# Altium schematic symbol library GPS-V2.SCHLIB: 24 symbols
Pins are listed as number, name and electrical type; pins without a type are passive.

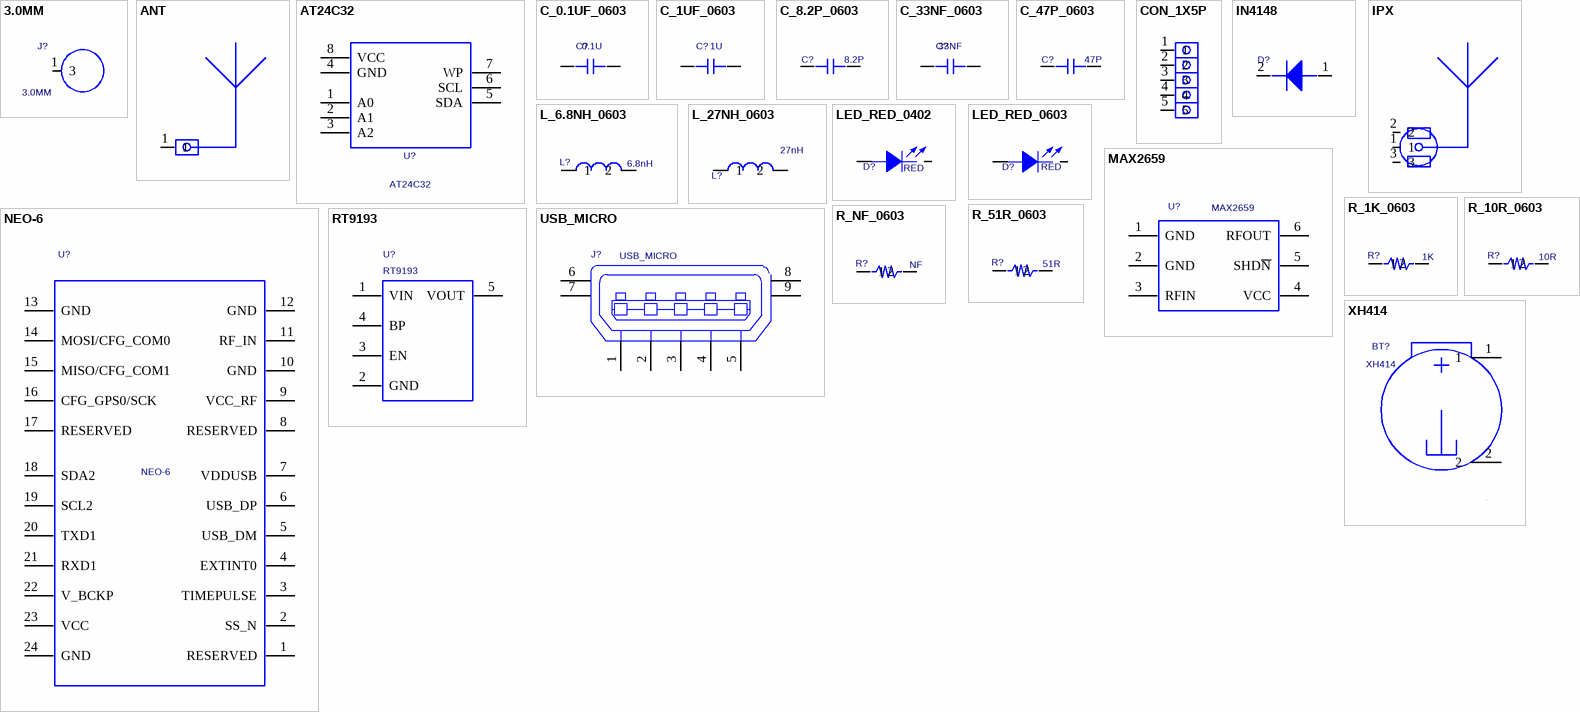
[diagram p0: symbols 3.0MM to XH414]

## 3.0MM
designator J?
PCB DECAL: 3.0MM-5
footprint 3.0MM-5
pins: 1 3

## ANT
designator U?  (value not drawn)
GPS-ANT; Value: GPS-ANT; Manufacture 1 P/N: GPS-ANT; PCB DECAL: ANT
footprint ANT
pins: 1

## AT24C32
designator U?
PCB DECAL: TSSOP8
footprint TSSOP8
pins: 1 A0, 2 A1, 3 A2, 4 GND, 5 SDA, 6 SCL, 7 WP, 8 VCC

## C_0.1UF_0603
designator C?  value 0.1U  (hidden comment: C_0.1UF_0603)
PCB DECAL: C_0603
footprint C_0603
pins: 1, 2

## C_1UF_0603
designator C?  value 1U  (hidden comment: C_1UF_0603)
PCB DECAL: C_0603
footprint C_0603
pins: 1, 2

## C_8.2P_0603
designator C?  value 8.2P  (hidden comment: C_8.2P_0603)
PCB DECAL: C_0603
footprint C_0603
pins: 1, 2

## C_33NF_0603
designator C?  value 33NF  (hidden comment: C_33NF_0603)
PCB DECAL: C_0603
footprint C_0603
pins: 1, 2

## C_47P_0603
designator C?  value 47P  (hidden comment: C_47P_0603)
PCB DECAL: C_0603
footprint C_0603
pins: 1, 2

## CON_1X5P
designator J?  (value not drawn)
PCB DECAL: CON_1X5P
footprint CON_1X5P
pins: 1, 2, 3, 4, 5

## IN4148
designator D?  (value not drawn)
PCB DECAL: DIODE_SOP
footprint DIODE_SOP
pins: 1 +, 2 -

## IPX
designator J?  (value not drawn)
PCB DECAL: IPX
footprint IPX
pins: 1, 2, 3

## L_6.8NH_0603
designator L?  value 6.8nH  (hidden comment: L_6.8NH_0603)
PCB DECAL: R_0603
footprint R_0603
pins: 1, 2

## L_27NH_0603
designator L?  value 27nH  (hidden comment: L_27NH_0603)
PCB DECAL: R_0603
footprint R_0603
pins: 1, 2

## LED_RED_0402
designator D?  value RED  (hidden comment: LED_RED_0402)
PCB DECAL: LED_0402
footprint LED_0402
pins: A ANODE, K CATHODE

## LED_RED_0603
designator D?  value RED  (hidden comment: LED_RED_0603)
PCB DECAL: LED_0603
footprint LED_0603
pins: A ANODE, K CATHODE

## MAX2659
designator U?
PCB DECAL: UDNF-6L
footprint UDNF-6L
pins: 1 GND, 2 GND, 3 RFIN, 4 VCC, 5 SHD~{N}, 6 RFOUT

## NEO-6
designator U?
PCB DECAL: NEO-6M
footprint NEO-6M
pins: 1 RESERVED, 2 SS_N, 3 TIMEPULSE, 4 EXTINT0, 5 USB_DM, 6 USB_DP, 7 VDDUSB, 8 RESERVED, 9 VCC_RF, 10 GND, 11 RF_IN, 12 GND, 13 GND, 14 MOSI/CFG_COM0, 15 MISO/CFG_COM1, 16 CFG_GPS0/SCK, 17 RESERVED, 18 SDA2, 19 SCL2, 20 TXD1, 21 RXD1, 22 V_BCKP, 23 VCC, 24 GND

## R_1K_0603
designator R?  value 1K  (hidden comment: R_1K_0603)
PCB DECAL: R_0603
footprint R_0603
pins: 1, 2

## R_10R_0603
designator R?  value 10R  (hidden comment: R_10R_0603)
PCB DECAL: R_0603
footprint R_0603
pins: 1, 2

## R_51R_0603
designator R?  value 51R  (hidden comment: R_51R_0603)
PCB DECAL: R_0603
footprint R_0603
pins: 1, 2

## R_NF_0603
designator R?  value NF  (hidden comment: R_NF_0603)
PCB DECAL: RES_0603_FIRE
footprint RES_0603_FIRE
pins: 1, 2

## RT9193
designator U?
PCB DECAL: SOT23-5
footprint SOT23-5
pins: 1 VIN (power), 2 GND (power), 3 EN, 4 BP, 5 VOUT (power)

## USB_MICRO
designator J?
PCB DECAL: MICRO_USB_SMD
footprint MICRO_USB_SMD
pins: 1 VBUS, 2 D-, 3 D+, 4 ID, 5 GND, 6 GND, 7 GND, 8 GND, 9 GND

## XH414
designator BT?
PCB DECAL: XH414
footprint XH414
pins: 1, 2